# Altium schematic symbol library NCP1117.Schlib: 1 symbol
Pins are listed as number, name and electrical type; pins without a type are passive.

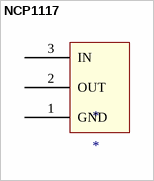
[diagram p0: symbol NCP1117]

## NCP1117
designator *
IC REG 5V 1A DPAC
pins: 1 GND, 2 OUT, 3 IN